# Altium footprint library WE WR_COM 692112030100.PcbLib: 1 footprints
Each footprint in its own frame and in the unit in brackets; x right, y up, seen from the top. Pads: shape width x height; smd on the part's side, far side on the other; paste and mask are expansions set on the pad; w line width, h text height; cw(c..) or ccw(c..) is an arc to the next point about the centre after c.
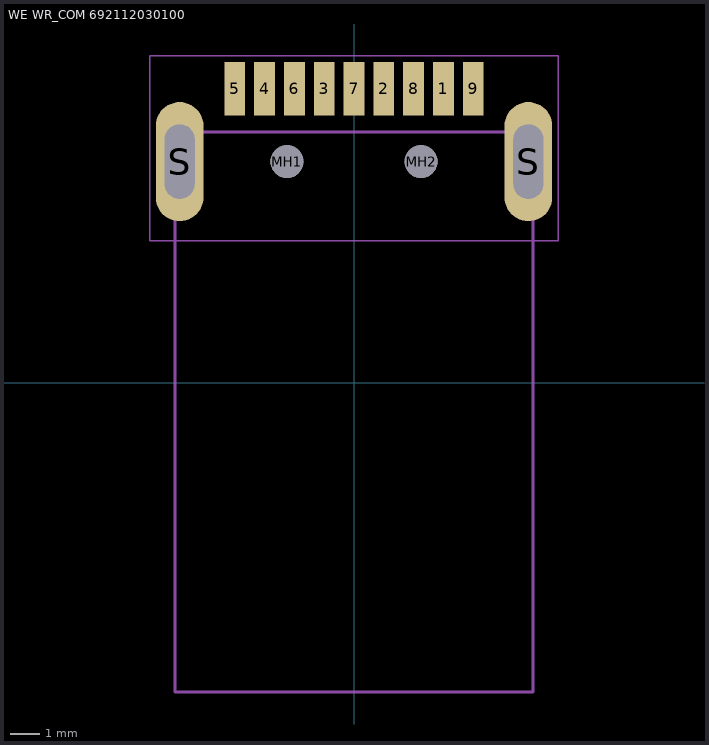
[diagram p0: the footprint, top view; thin cyan lines are the x and y axes]

## WE WR_COM 692112030100 [mm] "USB 3.0 Type A SMT Plug with Clip"
height 4.5
pads (13):
  rect 0.7x1.8 smd: 1(3,9.875) 2(1,9.875) 3(-1,9.875) 4(-3,9.875) 5(-4,9.875) 6(-2,9.875) 7(0,9.875) 8(2,9.875) 9(4,9.875)
  round 1.1 hole 1.1 unplated: MH1(-2.25,7.425) MH2(2.25,7.425)
  oval 1.6x4 hole 1 slot 2.5 at 90 deg: S(-5.85,7.425) S(5.85,7.425)
Top Assembly:
  lines w0.1: -6,-10.375 -6,8.425 6,8.425 6,-10.375 -6,-10.375
Top Courtyard:
  lines w0.05: -6.85,4.775 6.85,4.775 6.85,10.975 -6.85,10.975 -6.85,4.775
  text "PCB EDGE" at -2.251,4.049 h1
Top Designator:
  text ".Designator" at -4.874,-0.452 h2
3D body "692112030100.stp": height 1.84, standoff -2.66, extent -6,-10.367 6,10.383